# Altium footprint library Crystal.PcbLib: 7 footprints
Each footprint in its own frame and in the unit in brackets; x right, y up, seen from the top. Pads: shape width x height; smd on the part's side, far side on the other; paste and mask are expansions set on the pad; w line width, h text height; cw(c..) or ccw(c..) is an arc to the next point about the centre after c.
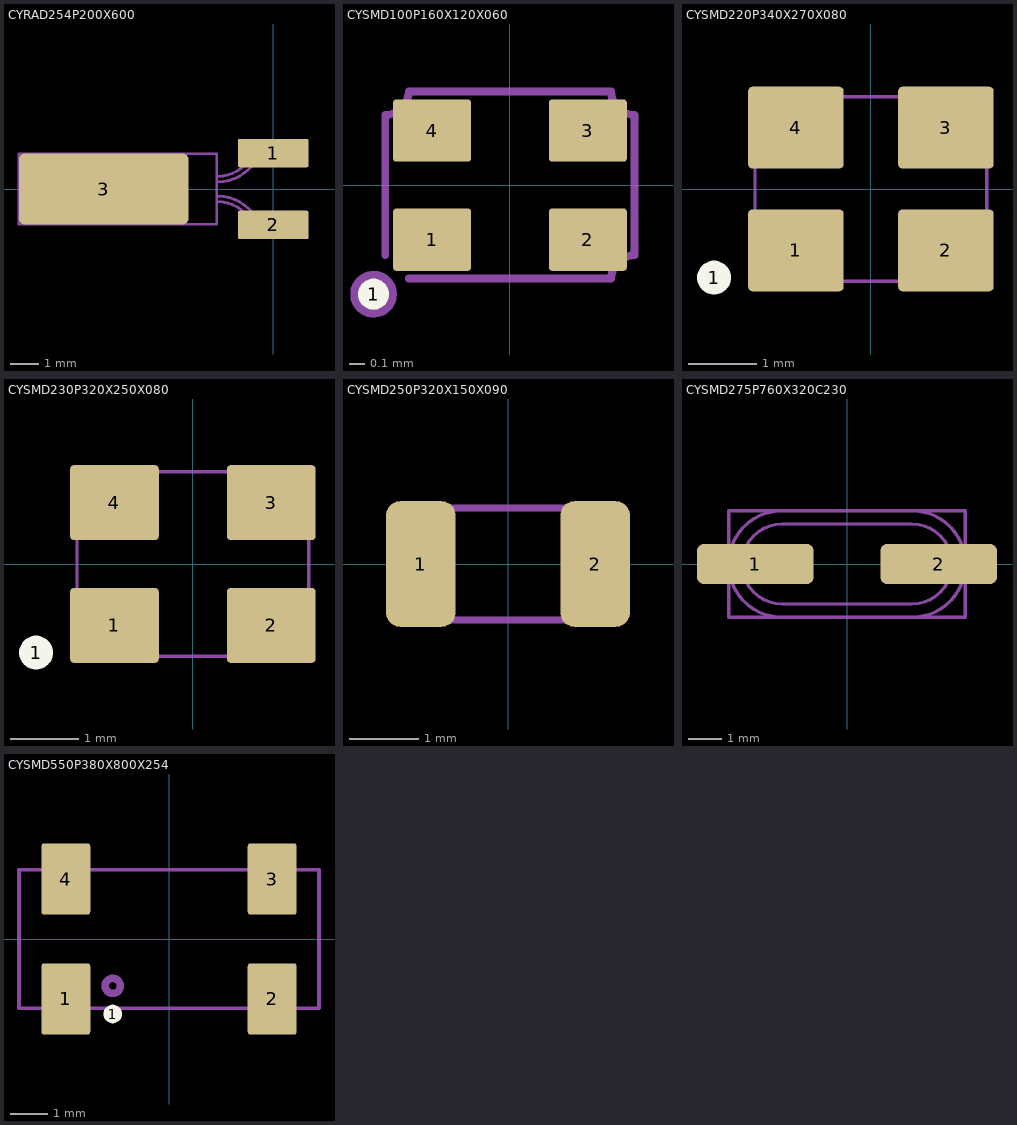
[diagram p0: the footprints below, top view; thin cyan lines are the x and y axes]

## CYRAD254P200X600 [mm]
pads (3):
  rrect10% 2.5x1 smd: 1(0,1.27) 2(0,-1.27)
  rrect15% 6x2.5 smd: 3(-6,0)
Top Assembly:
  lines w0.1: -2,-0.45 -1.966,-0.45 cw(c-1.966,-1.816) -1,-0.85 ccw(c0.086,0.236) 0.086,-1.3 0.7,-1.3 0.7,-1.1 0.086,-1.1 cw(c0.086,0.236) -0.858,-0.708 ccw(c-1.966,-1.816) -1.966,-0.25 -2,-0.25 ; -2,0.25 -1.966,0.25 ccw(c-1.966,1.816) -0.858,0.708 cw(c0.086,-0.236) 0.086,1.1 0.7,1.1 0.7,1.3 0.086,1.3 ccw(c0.086,-0.236) -1,0.85 cw(c-1.966,1.816) -1.966,0.45 -2,0.45 ; -9,-1.25 -9,1.25 -2,1.25 -2,-1.25 -9,-1.25
3D body "CYRAD254P200X600.stp": height 2.6, standoff 0.01, extent -8.5,-1.394 0.8,1.394

## CYSMD100P160X120X060 [mm]
pads (5):
  round 0.2 on Top Overlay: 1(-0.875,-0.7)
  rrect10% 0.5x0.4 smd: 1(-0.5,-0.35) 2(0.5,-0.35) 3(0.5,0.35) 4(-0.5,0.35)
Top Assembly:
  circle w0.1: c-0.875,-0.7 r0.1
  lines w0.05: -0.8,-0.45 -0.8,0.45 ccw(c-0.8,0.6) -0.65,0.6 0.65,0.6 ccw(c0.8,0.6) 0.8,0.45 0.8,-0.45 ccw(c0.8,-0.6) 0.65,-0.6 -0.65,-0.6
3D body: height 0.2, standoff 0, extent 0.246,-0.609 0.806,-0.149
3D body: height 0.2, standoff 0, extent -0.812,0.151 -0.252,0.611
3D body: height 0.2, standoff 0, extent 0.25,0.15 0.81,0.61
3D body: height 0.5, standoff 0.01, extent -0.8,-0.6 0.8,0.6
3D body: height 0.2, standoff 0, extent -0.81,-0.61 -0.25,-0.15
3D body: height 0.6, standoff 0.1, extent -0.7,-0.5 0.7,0.5

## CYSMD220P340X270X080 [mm]
pads (5):
  round 0.5 on Top Overlay: 1(-2.3,-1.3)
  rrect10% 1.4x1.2 smd: 1(-1.1,-0.9) 2(1.1,-0.9) 3(1.1,0.9) 4(-1.1,0.9)
Top Assembly:
  circle w0.2: c-1.1,-0.9 r0.2
  lines w0.05: -1.7,-1.2 -1.7,1.2 ccw(c-1.7,1.35) -1.55,1.35 1.55,1.35 ccw(c1.7,1.35) 1.7,1.2 1.7,-1.2 ccw(c1.7,-1.35) 1.55,-1.35 -1.55,-1.35
3D body: height 0.7, standoff 0.01, extent -1.7,-1.35 1.7,1.35
3D body: height 0.2, standoff 0, extent -1.71,-1.36 -0.61,-0.36
3D body: height 0.2, standoff 0, extent 0.61,0.385 1.71,1.385
3D body: height 0.2, standoff 0, extent -1.71,0.36 -0.61,1.36
3D body: height 0.2, standoff 0, extent 0.61,-1.36 1.71,-0.36
3D body: height 0.8, standoff 0, extent -1.5,-1.25 1.5,1.25

## CYSMD230P320X250X080 [mm]
pads (5):
  round 0.5 on Top Overlay: 1(-2.3,-1.3)
  rrect10% 1.3x1.1 smd: 1(-1.15,-0.9) 2(1.15,-0.9) 3(1.15,0.9) 4(-1.15,0.9)
Top Assembly:
  circle w0.2: c-1.1,-0.9 r0.2
  lines w0.05: -1.7,-1.2 -1.7,1.2 ccw(c-1.7,1.35) -1.55,1.35 1.55,1.35 ccw(c1.7,1.35) 1.7,1.2 1.7,-1.2 ccw(c1.7,-1.35) 1.55,-1.35 -1.55,-1.35
3D body: height 0.7, standoff 0.01, extent -1.6,-1.25 1.6,1.255
3D body: height 0.2, standoff 0, extent 0.5,-1.258 1.6,-0.258
3D body: height 0.2, standoff 0, extent -1.615,0.262 -0.515,1.262
3D body: height 0.2, standoff 0, extent 0.51,0.26 1.61,1.26
3D body: height 0.2, standoff 0, extent -1.61,-1.26 -0.51,-0.26
3D body: height 0.8, standoff 0.02, extent -1.5,-1.1 1.5,1.1

## CYSMD250P320X150X090 [mm]
pads (2):
  rrect40% 1x1.8 smd: 1(-1.25,0) 2(1.25,0)
Top Assembly:
  lines w0.1: -1.65,-0.8 1.65,-0.8 1.65,0.8 -1.65,0.8 -1.65,-0.8
3D body: height 0.9, standoff 0.8, extent -1.45,-0.6 1.45,0.6
3D body: height 0.8, standoff 0.35, extent -1.65,-0.8 1.65,0.8
3D body: height 0.35, standoff 0, extent 1.55,-0.5 1.65,0.5
3D body: height 0.35, standoff 0, extent -1.65,-0.5 -1.55,0.5
3D body: height 0.35, standoff 0, extent -1.35,-0.8 1.35,0.8
3D body: height 0.35, standoff 0, extent 0.85,-0.8 1.65,0.8
3D body: height 0.35, standoff 0, extent -1.65,-0.8 -0.85,0.8

## CYSMD275P760X320C230 [mm]
pads (2):
  rrect33% 3.5x1.2 smd: 1(-2.75,0) 2(2.75,0)
Top Assembly:
  lines w0.1: -3.55,-0.3 -3.8,-0.3 -3.8,0.3 -3.55,0.3 ; -1.95,-1.6 cw(c-1.95,0) -1.95,1.6 ; 1.95,-1.6 ccw(c1.95,0) 1.95,1.6 ; 3.55,-0.3 3.8,-0.3 3.8,0.3 3.55,0.3 ; -3.55,-1.6 3.55,-1.6 3.55,1.6 -3.55,1.6 -3.55,-1.6 ; -1.95,-1.2 cw(c-1.95,0) -1.95,1.2 1.95,1.2 cw(c1.95,0) 1.95,-1.2 -1.95,-1.2
3D body: height 0.3, standoff 0, extent -3.8,-0.3 -1.3,0.3
3D body: height 0.3, standoff 0, extent 1.3,-0.3 3.8,0.3
3D body: height 0.5, standoff 0.05, extent -3.55,-1.6 3.55,1.6
3D body: height 0.6, standoff 0.5, extent -3.55,-1.6 3.55,1.6
3D body: height 2.3, standoff 0.6, extent -3.15,-1.2 3.15,1.2

## CYSMD550P380X800X254 [mm]
pads (5):
  rrect10% 1.3x1.9 smd: 1(-2.75,-1.6) 2(2.75,-1.6) 3(2.75,1.6) 4(-2.75,1.6)
  round 0.5 on Top Overlay: 1(-1.5,-2)
Top Assembly:
  circle w0.2: c-1.5,-1.25 r0.2
  lines w0.1: -4,-1.85 4,-1.85 4,1.85 -4,1.85 -4,-1.85
3D body "CYSMD550P380X800X254.stp": height 2.54, standoff 0, extent -4,-1.85 4,1.85